# EAGLE library part TEMP_LM75B (library 0_jc-custom-eagle6)
LM75B I2C Temperature Sensor The I2C-based LM75B can measure temperature between -55 and 125°C in 0.125°C increments (11-bit resolution). Digikey: 568-4768-1-ND For a 1.8V compatible part, look at the following pin and SW compatible parts: DS75LV - Mouser: 700-DS75LVS, Digikey: (TSSOP8) DS75LVU+-ND (SOIC8) DS75LVS+-ND
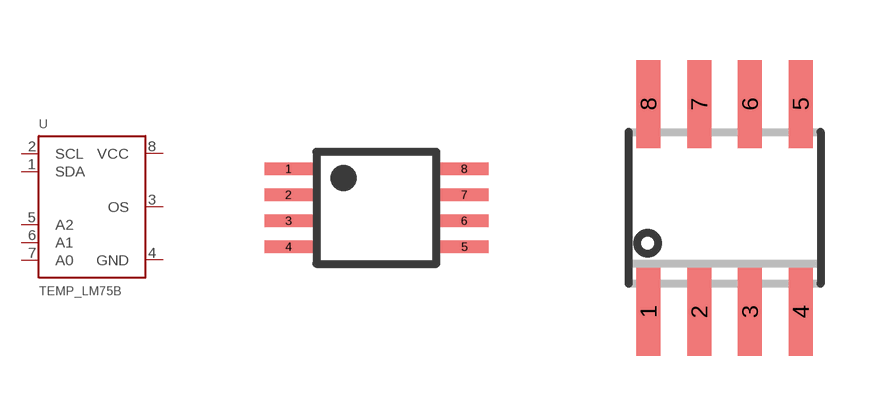
[diagram p30: symbol with the pads of TSSOP8; footprints TSSOP8, SOIC8_150MIL]

Designator prefix U

## TEMP_LM75B  [TSSOP8]
1  SDA
2  SCL
3  OS
4  GND  pwr
5  A2
6  A1
7  A0
8  VCC  pwr

## TEMP_LM75BSOIC  [SOIC8_150MIL]
Pads as for TSSOP8

## Footprint TSSOP8 (pad centres in mm)
Thin Shrink Small Outline Package 0.65mm Pitch, 3.0mm x 3.0mm
smd 1.2 x 0.305: 1 -2.2,0.975; 2 -2.2,0.325; 3 -2.2,-0.325; 4 -2.2,-0.975; 5 2.2,-0.975; 6 2.2,-0.325; 7 2.2,0.325; 8 2.2,0.975

## Footprint SOIC8_150MIL (pad centres in mm)
Small Outline IC - 150mil Wide
smd 0.6 x 2.2: 1 -1.905,-2.6; 2 -0.635,-2.6; 3 0.635,-2.6; 4 1.905,-2.6; 5 1.905,2.6; 6 0.635,2.6; 7 -0.635,2.6; 8 -1.905,2.6